# EAGLE library part HDMI (library 00_cody)
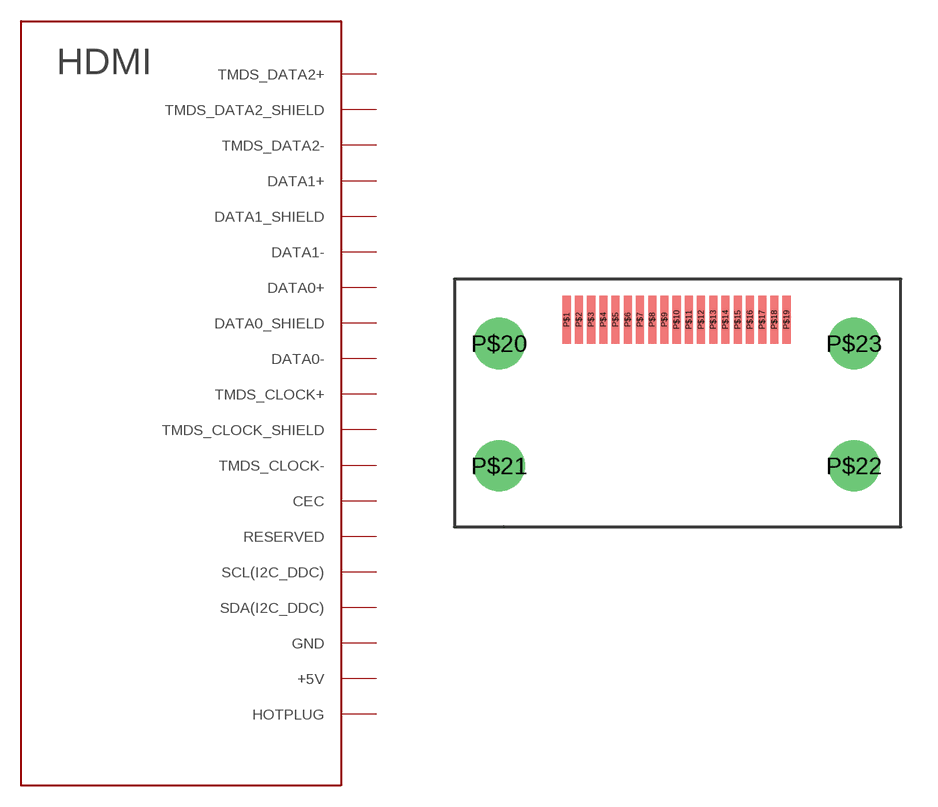
[diagram p150: symbol with the pads of HDMI; footprint HDMI]

Designator prefix -

## HDMI  [HDMI]
P$1  HOTPLUG
P$2  +5V
P$3  GND
P$4  SDA(I2C_DDC)
P$5  SCL(I2C_DDC)
P$6  RESERVED
P$7  CEC
P$8  TMDS_CLOCK-
P$9  TMDS_CLOCK_SHIELD
P$10  TMDS_CLOCK+
P$11  DATA0-
P$12  DATA0_SHIELD
P$13  DATA0+
P$14  DATA1-
P$15  DATA1_SHIELD
P$16  DATA1+
P$17  TMDS_DATA2-
P$18  TMDS_DATA2_SHIELD
P$19  TMDS_DATA2+

## Footprint HDMI (pad centres in mm)
smd 0.33 x 1.95: P$1 0,0; P$2 0.5,0; P$3 1,0; P$4 1.5,0; P$5 2,0; P$6 2.5,0; P$7 3,0; P$8 3.5,0; P$9 4,0; P$10 4.5,0; P$11 5,0; P$12 5.5,0; P$13 6,0; P$14 6.5,0; P$15 7,0; P$16 7.5,0; P$17 8,0; P$18 8.5,0; P$19 9,0
drill 1.4: P$20 -2.765,-0.975; P$21 -2.765,-5.975; P$22 11.765,-5.975; P$23 11.765,-0.975